# EAGLE library part APA102 (library MTAES_V2_UniqueParts)
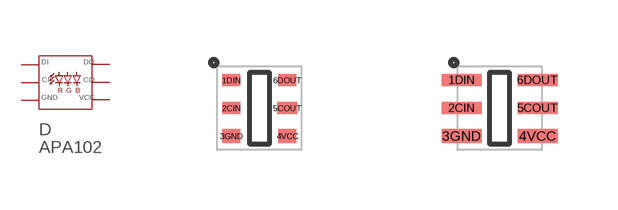
[diagram p2: symbol with the pads of APA102_2020; footprints APA102_2020, APA102_2020_LONG]

Designator prefix D

## APA1022020_SHORT  [APA102_2020]
1DIN  P$1
2CIN  P$2
3GND  P$3
4VCC  P$4
5COUT  P$5
6DOUT  P$6

## APA1022020_LONG  [APA102_2020_LONG]
Pads as for APA102_2020

## APA1025050_SHORT  [APA102_5050]
Pads as for APA102_2020

## APA1025050_LONG  [APA102_5050_LONG]
Pads as for APA102_2020

## Footprint APA102_2020 (pad centres in mm)
smd 0.45 x 0.3: 1DIN -0.7,0.7; 2CIN -0.7,0; 6DOUT 0.7,0.7
smd 0.45 x 0.35: 3GND -0.7,-0.7; 4VCC 0.7,-0.7
smd 0.5 x 0.3: 5COUT 0.7,0

## Footprint APA102_2020_LONG (pad centres in mm)
smd 1 x 0.3: 1DIN -0.95,0.7; 2CIN -0.95,0; 5COUT 0.95,0; 6DOUT 0.95,0.7
smd 1 x 0.35: 3GND -0.95,-0.7; 4VCC 0.95,-0.7

## Footprint APA102_5050 (pad centres in mm)
smd 0.65 x 0.8: 1DIN -2.175,1.85; 2CIN -2.175,0; 3GND -2.175,-1.85; 4VCC 2.175,-1.85; 5COUT 2.175,0; 6DOUT 2.175,1.85

## Footprint APA102_5050_LONG (pad centres in mm)
smd 1.3 x 0.8: 1DIN -2.5,1.85; 2CIN -2.5,0; 3GND -2.5,-1.85; 4VCC 2.5,-1.85; 5COUT 2.5,0; 6DOUT 2.5,1.85